# Altium footprint library Connector_PinHeader_1.27mm.PcbLib: 278 footprints (part 7 of 18)
Each footprint in its own frame and in the unit in brackets; x right, y up, seen from the top. Pads: shape width x height; smd on the part's side, far side on the other; paste and mask are expansions set on the pad; w line width, h text height; cw(c..) or ccw(c..) is an arc to the next point about the centre after c.
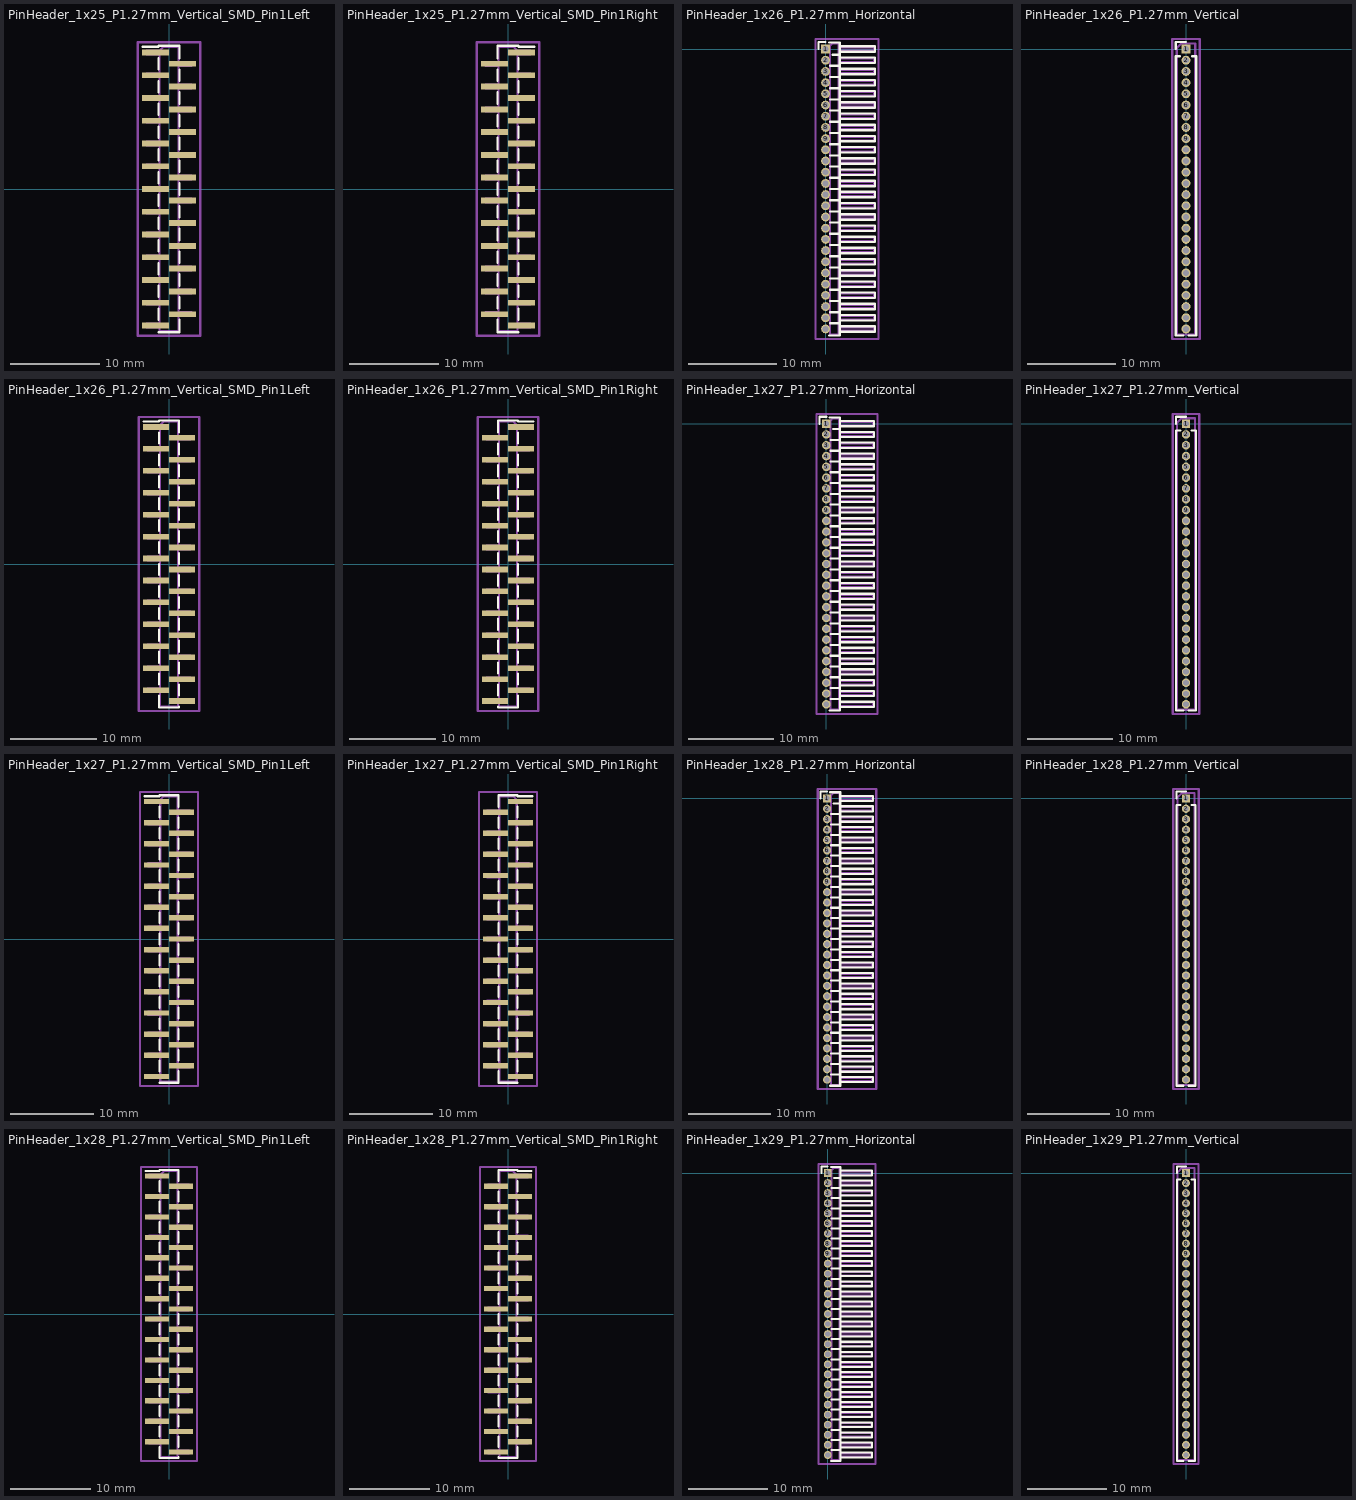
[diagram p6: the footprints below, top view; thin cyan lines are the x and y axes]

## PinHeader_1x25_P1.27mm_Vertical_SMD_Pin1Left [mm]
pads (25):
  rect 3x0.65 smd: 1(-1.5,15.24) 2(1.5,13.97) 3(-1.5,12.7) 4(1.5,11.43) 5(-1.5,10.16) 6(1.5,8.89) 7(-1.5,7.62) 8(1.5,6.35) 9(-1.5,5.08) 10(1.5,3.81) 11(-1.5,2.54) 12(1.5,1.27) 13(-1.5,0) 14(1.5,-1.27) 15(-1.5,-2.54) 16(1.5,-3.81) 17(-1.5,-5.08) 18(1.5,-6.35) 19(-1.5,-7.62) 20(1.5,-8.89) 21(-1.5,-10.16) 22(1.5,-11.43) 23(-1.5,-12.7) 24(1.5,-13.97) 25(-1.5,-15.24)
F.SilkS:
  lines w0.254: -2.94,15.875 -1.16,15.875 -1.16,15.985 1.16,15.985 ; -1.16,-15.985 1.16,-15.985 ; -1.16,-14.605 -1.16,-13.335 ; -1.16,-12.065 -1.16,-10.795 ; -1.16,-9.525 -1.16,-8.255 ; -1.16,-6.985 -1.16,-5.715 ; -1.16,-4.445 -1.16,-3.175 ; -1.16,-1.905 -1.16,-0.635 ; -1.16,0.635 -1.16,1.905 ; -1.16,3.175 -1.16,4.445 ; -1.16,5.715 -1.16,6.985 ; -1.16,8.255 -1.16,9.525 ; -1.16,10.795 -1.16,12.065 ; -1.16,13.335 -1.16,14.605 ; 1.16,-15.875 1.16,-15.985 ; 1.16,-14.605 1.16,-15.985 ; 1.16,-13.335 1.16,-12.065 ; 1.16,-10.795 1.16,-9.525 ; 1.16,-8.255 1.16,-6.985 ; 1.16,-5.715 1.16,-4.445 ; 1.16,-3.175 1.16,-1.905 ; 1.16,-0.635 1.16,0.635 ; 1.16,1.905 1.16,3.175 ; 1.16,4.445 1.16,5.715 ; 1.16,6.985 1.16,8.255 ; 1.16,9.525 1.16,10.795 ; 1.16,12.065 1.16,13.335 ; 1.16,14.605 1.16,15.875
Top Assembly:
  lines w0.254: -1.05,-15.44 -2.5,-15.44 -2.5,-15.04 -1.05,-15.04 ; -1.05,-12.9 -2.5,-12.9 -2.5,-12.5 -1.05,-12.5 ; -1.05,-10.36 -2.5,-10.36 -2.5,-9.96 -1.05,-9.96 ; -1.05,-7.82 -2.5,-7.82 -2.5,-7.42 -1.05,-7.42 ; -1.05,-5.28 -2.5,-5.28 -2.5,-4.88 -1.05,-4.88 ; -1.05,-2.74 -2.5,-2.74 -2.5,-2.34 -1.05,-2.34 ; -1.05,-0.2 -2.5,-0.2 -2.5,0.2 -1.05,0.2 ; -1.05,2.34 -2.5,2.34 -2.5,2.74 -1.05,2.74 ; -1.05,4.88 -2.5,4.88 -2.5,5.28 -1.05,5.28 ; -1.05,7.42 -2.5,7.42 -2.5,7.82 -1.05,7.82 ; -1.05,9.96 -2.5,9.96 -2.5,10.36 -1.05,10.36 ; -1.05,12.5 -2.5,12.5 -2.5,12.9 -1.05,12.9 ; -1.05,15.04 -2.5,15.04 -2.5,15.44 -1.05,15.44 ; 1.05,-14.17 2.5,-14.17 2.5,-13.77 1.05,-13.77 ; 1.05,-11.63 2.5,-11.63 2.5,-11.23 1.05,-11.23 ; 1.05,-9.09 2.5,-9.09 2.5,-8.69 1.05,-8.69 ; 1.05,-6.55 2.5,-6.55 2.5,-6.15 1.05,-6.15 ; 1.05,-4.01 2.5,-4.01 2.5,-3.61 1.05,-3.61 ; 1.05,-1.47 2.5,-1.47 2.5,-1.07 1.05,-1.07 ; 1.05,1.07 2.5,1.07 2.5,1.47 1.05,1.47 ; 1.05,3.61 2.5,3.61 2.5,4.01 1.05,4.01 ; 1.05,6.15 2.5,6.15 2.5,6.55 1.05,6.55 ; 1.05,8.69 2.5,8.69 2.5,9.09 1.05,9.09 ; 1.05,11.23 2.5,11.23 2.5,11.63 1.05,11.63 ; 1.05,13.77 2.5,13.77 2.5,14.17 1.05,14.17 ; -1.05,15.44 -1.05,-15.875 1.05,-15.875 1.05,15.875 -0.615,15.875 -1.05,15.44
  text "'.Designator'" at 0.84,-4.047 h1
Top Courtyard:
  lines w0.254: -3.5,-16.38 3.5,-16.38 3.5,16.38 -3.5,16.38 -3.5,-16.38
Top Designator:
  text ".Designator" at -7.618,-0.508 h1.52

## PinHeader_1x25_P1.27mm_Vertical_SMD_Pin1Right [mm]
pads (25):
  rect 3x0.65 smd: 1(1.5,15.24) 2(-1.5,13.97) 3(1.5,12.7) 4(-1.5,11.43) 5(1.5,10.16) 6(-1.5,8.89) 7(1.5,7.62) 8(-1.5,6.35) 9(1.5,5.08) 10(-1.5,3.81) 11(1.5,2.54) 12(-1.5,1.27) 13(1.5,0) 14(-1.5,-1.27) 15(1.5,-2.54) 16(-1.5,-3.81) 17(1.5,-5.08) 18(-1.5,-6.35) 19(1.5,-7.62) 20(-1.5,-8.89) 21(1.5,-10.16) 22(-1.5,-11.43) 23(1.5,-12.7) 24(-1.5,-13.97) 25(1.5,-15.24)
F.SilkS:
  lines w0.254: -1.16,-15.875 -1.16,-15.985 ; -1.16,-14.605 -1.16,-15.985 ; -1.16,-13.335 -1.16,-12.065 ; -1.16,-10.795 -1.16,-9.525 ; -1.16,-8.255 -1.16,-6.985 ; -1.16,-5.715 -1.16,-4.445 ; -1.16,-3.175 -1.16,-1.905 ; -1.16,-0.635 -1.16,0.635 ; -1.16,1.905 -1.16,3.175 ; -1.16,4.445 -1.16,5.715 ; -1.16,6.985 -1.16,8.255 ; -1.16,9.525 -1.16,10.795 ; -1.16,12.065 -1.16,13.335 ; -1.16,15.985 1.16,15.985 1.16,15.875 2.94,15.875 ; 1.16,-15.985 -1.16,-15.985 ; 1.16,-14.605 1.16,-13.335 ; 1.16,-12.065 1.16,-10.795 ; 1.16,-9.525 1.16,-8.255 ; 1.16,-6.985 1.16,-5.715 ; 1.16,-4.445 1.16,-3.175 ; 1.16,-1.905 1.16,-0.635 ; 1.16,0.635 1.16,1.905 ; 1.16,3.175 1.16,4.445 ; 1.16,5.715 1.16,6.985 ; 1.16,8.255 1.16,9.525 ; 1.16,10.795 1.16,12.065 ; 1.16,13.335 1.16,14.605 ; -1.16,14.605 -1.16,15.875 -1.16,14.605
Top Assembly:
  lines w0.254: -1.05,-14.17 -2.5,-14.17 -2.5,-13.77 -1.05,-13.77 ; -1.05,-11.63 -2.5,-11.63 -2.5,-11.23 -1.05,-11.23 ; -1.05,-9.09 -2.5,-9.09 -2.5,-8.69 -1.05,-8.69 ; -1.05,-6.55 -2.5,-6.55 -2.5,-6.15 -1.05,-6.15 ; -1.05,-4.01 -2.5,-4.01 -2.5,-3.61 -1.05,-3.61 ; -1.05,-1.47 -2.5,-1.47 -2.5,-1.07 -1.05,-1.07 ; -1.05,1.07 -2.5,1.07 -2.5,1.47 -1.05,1.47 ; -1.05,3.61 -2.5,3.61 -2.5,4.01 -1.05,4.01 ; -1.05,6.15 -2.5,6.15 -2.5,6.55 -1.05,6.55 ; -1.05,8.69 -2.5,8.69 -2.5,9.09 -1.05,9.09 ; -1.05,11.23 -2.5,11.23 -2.5,11.63 -1.05,11.63 ; -1.05,13.77 -2.5,13.77 -2.5,14.17 -1.05,14.17 ; 1.05,-15.44 2.5,-15.44 2.5,-15.04 1.05,-15.04 ; 1.05,-12.9 2.5,-12.9 2.5,-12.5 1.05,-12.5 ; 1.05,-10.36 2.5,-10.36 2.5,-9.96 1.05,-9.96 ; 1.05,-7.82 2.5,-7.82 2.5,-7.42 1.05,-7.42 ; 1.05,-5.28 2.5,-5.28 2.5,-4.88 1.05,-4.88 ; 1.05,-2.74 2.5,-2.74 2.5,-2.34 1.05,-2.34 ; 1.05,-0.2 2.5,-0.2 2.5,0.2 1.05,0.2 ; 1.05,2.34 2.5,2.34 2.5,2.74 1.05,2.74 ; 1.05,4.88 2.5,4.88 2.5,5.28 1.05,5.28 ; 1.05,7.42 2.5,7.42 2.5,7.82 1.05,7.82 ; 1.05,9.96 2.5,9.96 2.5,10.36 1.05,10.36 ; 1.05,12.5 2.5,12.5 2.5,12.9 1.05,12.9 ; 1.05,15.04 2.5,15.04 2.5,15.44 1.05,15.44 ; 1.05,15.44 1.05,-15.875 -1.05,-15.875 -1.05,15.875 0.615,15.875 1.05,15.44
  text "'.Designator'" at 0.84,-4.047 h1
Top Courtyard:
  lines w0.254: -3.5,-16.38 3.5,-16.38 3.5,16.38 -3.5,16.38 -3.5,-16.38
Top Designator:
  text ".Designator" at -7.618,-0.508 h1.52

## PinHeader_1x26_P1.27mm_Horizontal [mm]
pads (26):
  rect 1x1 hole 0.65: 1(0,0)
  round 1 hole 0.65: 2(0,-1.27) 3(0,-2.54) 4(0,-3.81) 5(0,-5.08) 6(0,-6.35) 7(0,-7.62) 8(0,-8.89) 9(0,-10.16) 10(0,-11.43) 11(0,-12.7) 12(0,-13.97) 13(0,-15.24) 14(0,-16.51) 15(0,-17.78) 16(0,-19.05) 17(0,-20.32) 18(0,-21.59) 19(0,-22.86) 20(0,-24.13) 21(0,-25.4) 22(0,-26.67) 23(0,-27.94) 24(0,-29.21) 25(0,-30.48) 26(0,-31.75)
F.SilkS:
  lines w0.254: -0.81,0 -0.81,0.81 0,0.81 ; 0.39,-32.495 1.61,-32.495 1.61,0.745 0.39,0.745 ; 0.503,-31.115 1.61,-31.115 ; 0.503,-29.845 1.61,-29.845 ; 0.503,-28.575 1.61,-28.575 ; 0.503,-27.305 1.61,-27.305 ; 0.503,-26.035 1.61,-26.035 ; 0.503,-24.765 1.61,-24.765 ; 0.503,-23.495 1.61,-23.495 ; 0.503,-22.225 1.61,-22.225 ; 0.503,-20.955 1.61,-20.955 ; 0.503,-19.685 1.61,-19.685 ; 0.503,-18.415 1.61,-18.415 ; 0.503,-17.145 1.61,-17.145 ; 0.503,-15.875 1.61,-15.875 ; 0.503,-14.605 1.61,-14.605 ; 0.503,-13.335 1.61,-13.335 ; 0.503,-12.065 1.61,-12.065 ; 0.503,-10.795 1.61,-10.795 ; 0.503,-9.525 1.61,-9.525 ; 0.503,-8.255 1.61,-8.255 ; 0.503,-6.985 1.61,-6.985 ; 0.503,-5.715 1.61,-5.715 ; 0.503,-4.445 1.61,-4.445 ; 0.503,-3.175 1.61,-3.175 ; 0.503,-1.905 1.61,-1.905 ; 0.81,-0.635 1.61,-0.635 ; 1.61,-32.06 5.61,-32.06 5.61,-31.44 1.61,-31.44 ; 1.61,-30.79 5.61,-30.79 5.61,-30.17 1.61,-30.17 ; 1.61,-29.52 5.61,-29.52 5.61,-28.9 1.61,-28.9 ; 1.61,-28.25 5.61,-28.25 5.61,-27.63 1.61,-27.63 ; 1.61,-26.98 5.61,-26.98 5.61,-26.36 1.61,-26.36 ; 1.61,-25.71 5.61,-25.71 5.61,-25.09 1.61,-25.09 ; 1.61,-24.44 5.61,-24.44 5.61,-23.82 1.61,-23.82 ; 1.61,-23.17 5.61,-23.17 5.61,-22.55 1.61,-22.55 ; 1.61,-21.9 5.61,-21.9 5.61,-21.28 1.61,-21.28 ; 1.61,-20.63 5.61,-20.63 5.61,-20.01 1.61,-20.01 ; 1.61,-19.36 5.61,-19.36 5.61,-18.74 1.61,-18.74 ; 1.61,-18.09 5.61,-18.09 5.61,-17.47 1.61,-17.47 ; 1.61,-16.82 5.61,-16.82 5.61,-16.2 1.61,-16.2 ; 1.61,-15.55 5.61,-15.55 5.61,-14.93 1.61,-14.93 ; 1.61,-14.28 5.61,-14.28 5.61,-13.66 1.61,-13.66 ; 1.61,-13.01 5.61,-13.01 5.61,-12.39 1.61,-12.39 ; 1.61,-11.74 5.61,-11.74 5.61,-11.12 1.61,-11.12 ; 1.61,-10.47 5.61,-10.47 5.61,-9.85 1.61,-9.85 ; 1.61,-9.2 5.61,-9.2 5.61,-8.58 1.61,-8.58 ; 1.61,-7.93 5.61,-7.93 5.61,-7.31 1.61,-7.31 ; 1.61,-6.66 5.61,-6.66 5.61,-6.04 1.61,-6.04 ; 1.61,-5.39 5.61,-5.39 5.61,-4.77 1.61,-4.77 ; 1.61,-4.12 5.61,-4.12 5.61,-3.5 1.61,-3.5 ; 1.61,-2.85 5.61,-2.85 5.61,-2.23 1.61,-2.23 ; 1.61,-1.58 5.61,-1.58 5.61,-0.96 1.61,-0.96 ; 1.61,-0.31 5.61,-0.31 5.61,0.31 1.61,0.31 1.61,-0.31
Top Assembly:
  drawing of 161 lines, arcs and shapes, not listed
  text "'.Designator'" at 1.504,-18.303 h0.6
Top Courtyard:
  lines w0.254: -1.14,-32.89 6,-32.89 6,1.14 -1.14,1.14 -1.14,-32.89
Top Designator:
  text ".Designator" at -5.188,-16.383 h1.52

## PinHeader_1x26_P1.27mm_Vertical [mm]
pads (26):
  rect 1x1 hole 0.65: 1(0,0)
  round 1 hole 0.65: 2(0,-1.27) 3(0,-2.54) 4(0,-3.81) 5(0,-5.08) 6(0,-6.35) 7(0,-7.62) 8(0,-8.89) 9(0,-10.16) 10(0,-11.43) 11(0,-12.7) 12(0,-13.97) 13(0,-15.24) 14(0,-16.51) 15(0,-17.78) 16(0,-19.05) 17(0,-20.32) 18(0,-21.59) 19(0,-22.86) 20(0,-24.13) 21(0,-25.4) 22(0,-26.67) 23(0,-27.94) 24(0,-29.21) 25(0,-30.48) 26(0,-31.75)
F.SilkS:
  lines w0.254: -1.16,0 -1.16,0.81 0,0.81 ; -0.667,-0.81 -1.16,-0.81 -1.16,-32.495 -0.318,-32.495 ; 0.318,-32.495 1.16,-32.495 1.16,-0.81 0.667,-0.81
Top Assembly:
  lines w0.254: -1.05,-32.385 1.05,-32.385 1.05,0.635 -0.525,0.635 -1.05,0.11 -1.05,-32.385
  text "'.Designator'" at 0.84,-19.922 h1
Top Courtyard:
  lines w0.254: -1.55,-32.89 1.55,-32.89 1.55,1.14 -1.55,1.14 -1.55,-32.89
Top Designator:
  text ".Designator" at -7.618,-16.383 h1.52

## PinHeader_1x26_P1.27mm_Vertical_SMD_Pin1Left [mm]
pads (26):
  rect 3x0.65 smd: 1(-1.5,15.875) 2(1.5,14.605) 3(-1.5,13.335) 4(1.5,12.065) 5(-1.5,10.795) 6(1.5,9.525) 7(-1.5,8.255) 8(1.5,6.985) 9(-1.5,5.715) 10(1.5,4.445) 11(-1.5,3.175) 12(1.5,1.905) 13(-1.5,0.635) 14(1.5,-0.635) 15(-1.5,-1.905) 16(1.5,-3.175) 17(-1.5,-4.445) 18(1.5,-5.715) 19(-1.5,-6.985) 20(1.5,-8.255) 21(-1.5,-9.525) 22(1.5,-10.795) 23(-1.5,-12.065) 24(1.5,-13.335) 25(-1.5,-14.605) 26(1.5,-15.875)
F.SilkS:
  lines w0.254: -2.94,16.51 -1.16,16.51 -1.16,16.62 1.16,16.62 ; -1.16,-15.24 -1.16,-16.62 1.16,-16.62 1.16,-16.51 ; -1.16,-13.97 -1.16,-12.7 ; -1.16,-11.43 -1.16,-10.16 ; -1.16,-8.89 -1.16,-7.62 ; -1.16,-6.35 -1.16,-5.08 ; -1.16,-3.81 -1.16,-2.54 ; -1.16,-1.27 -1.16,0 ; -1.16,1.27 -1.16,2.54 ; -1.16,3.81 -1.16,5.08 ; -1.16,6.35 -1.16,7.62 ; -1.16,8.89 -1.16,10.16 ; -1.16,11.43 -1.16,12.7 ; -1.16,13.97 -1.16,15.24 ; 1.16,-15.24 1.16,-13.97 ; 1.16,-12.7 1.16,-11.43 ; 1.16,-10.16 1.16,-8.89 ; 1.16,-7.62 1.16,-6.35 ; 1.16,-5.08 1.16,-3.81 ; 1.16,-2.54 1.16,-1.27 ; 1.16,0 1.16,1.27 ; 1.16,2.54 1.16,3.81 ; 1.16,5.08 1.16,6.35 ; 1.16,7.62 1.16,8.89 ; 1.16,10.16 1.16,11.43 ; 1.16,12.7 1.16,13.97 ; 1.16,15.24 1.16,16.51
Top Assembly:
  lines w0.254: -1.05,-14.805 -2.5,-14.805 -2.5,-14.405 -1.05,-14.405 ; -1.05,-12.265 -2.5,-12.265 -2.5,-11.865 -1.05,-11.865 ; -1.05,-9.725 -2.5,-9.725 -2.5,-9.325 -1.05,-9.325 ; -1.05,-7.185 -2.5,-7.185 -2.5,-6.785 -1.05,-6.785 ; -1.05,-4.645 -2.5,-4.645 -2.5,-4.245 -1.05,-4.245 ; -1.05,-2.105 -2.5,-2.105 -2.5,-1.705 -1.05,-1.705 ; -1.05,0.435 -2.5,0.435 -2.5,0.835 -1.05,0.835 ; -1.05,2.975 -2.5,2.975 -2.5,3.375 -1.05,3.375 ; -1.05,5.515 -2.5,5.515 -2.5,5.915 -1.05,5.915 ; -1.05,8.055 -2.5,8.055 -2.5,8.455 -1.05,8.455 ; -1.05,10.595 -2.5,10.595 -2.5,10.995 -1.05,10.995 ; -1.05,13.135 -2.5,13.135 -2.5,13.535 -1.05,13.535 ; -1.05,15.675 -2.5,15.675 -2.5,16.075 -1.05,16.075 ; 1.05,-16.075 2.5,-16.075 2.5,-15.675 1.05,-15.675 ; 1.05,-13.535 2.5,-13.535 2.5,-13.135 1.05,-13.135 ; 1.05,-10.995 2.5,-10.995 2.5,-10.595 1.05,-10.595 ; 1.05,-8.455 2.5,-8.455 2.5,-8.055 1.05,-8.055 ; 1.05,-5.915 2.5,-5.915 2.5,-5.515 1.05,-5.515 ; 1.05,-3.375 2.5,-3.375 2.5,-2.975 1.05,-2.975 ; 1.05,-0.835 2.5,-0.835 2.5,-0.435 1.05,-0.435 ; 1.05,1.705 2.5,1.705 2.5,2.105 1.05,2.105 ; 1.05,4.245 2.5,4.245 2.5,4.645 1.05,4.645 ; 1.05,6.785 2.5,6.785 2.5,7.185 1.05,7.185 ; 1.05,9.325 2.5,9.325 2.5,9.725 1.05,9.725 ; 1.05,11.865 2.5,11.865 2.5,12.265 1.05,12.265 ; 1.05,14.405 2.5,14.405 2.5,14.805 1.05,14.805 ; -1.05,16.075 -1.05,-16.51 1.05,-16.51 1.05,16.51 -0.615,16.51 -1.05,16.075
  text "'.Designator'" at 0.84,-4.047 h1
Top Courtyard:
  lines w0.254: -3.5,-17.01 3.5,-17.01 3.5,17.01 -3.5,17.01 -3.5,-17.01
Top Designator:
  text ".Designator" at -7.618,-0.508 h1.52

## PinHeader_1x26_P1.27mm_Vertical_SMD_Pin1Right [mm]
pads (26):
  rect 3x0.65 smd: 1(1.5,15.875) 2(-1.5,14.605) 3(1.5,13.335) 4(-1.5,12.065) 5(1.5,10.795) 6(-1.5,9.525) 7(1.5,8.255) 8(-1.5,6.985) 9(1.5,5.715) 10(-1.5,4.445) 11(1.5,3.175) 12(-1.5,1.905) 13(1.5,0.635) 14(-1.5,-0.635) 15(1.5,-1.905) 16(-1.5,-3.175) 17(1.5,-4.445) 18(-1.5,-5.715) 19(1.5,-6.985) 20(-1.5,-8.255) 21(1.5,-9.525) 22(-1.5,-10.795) 23(1.5,-12.065) 24(-1.5,-13.335) 25(1.5,-14.605) 26(-1.5,-15.875)
F.SilkS:
  lines w0.254: -1.16,-16.51 -1.16,-16.62 1.16,-16.62 1.16,-15.24 ; -1.16,-15.24 -1.16,-13.97 ; -1.16,-12.7 -1.16,-11.43 ; -1.16,-10.16 -1.16,-8.89 ; -1.16,-7.62 -1.16,-6.35 ; -1.16,-5.08 -1.16,-3.81 ; -1.16,-2.54 -1.16,-1.27 ; -1.16,0 -1.16,1.27 ; -1.16,2.54 -1.16,3.81 ; -1.16,5.08 -1.16,6.35 ; -1.16,7.62 -1.16,8.89 ; -1.16,10.16 -1.16,11.43 ; -1.16,12.7 -1.16,13.97 ; -1.16,16.62 1.16,16.62 1.16,16.51 2.94,16.51 ; 1.16,-13.97 1.16,-12.7 ; 1.16,-11.43 1.16,-10.16 ; 1.16,-8.89 1.16,-7.62 ; 1.16,-6.35 1.16,-5.08 ; 1.16,-3.81 1.16,-2.54 ; 1.16,-1.27 1.16,0 ; 1.16,1.27 1.16,2.54 ; 1.16,3.81 1.16,5.08 ; 1.16,6.35 1.16,7.62 ; 1.16,8.89 1.16,10.16 ; 1.16,11.43 1.16,12.7 ; 1.16,13.97 1.16,15.24 ; -1.16,15.24 -1.16,16.51 -1.16,15.24
Top Assembly:
  lines w0.254: -1.05,-16.075 -2.5,-16.075 -2.5,-15.675 -1.05,-15.675 ; -1.05,-13.535 -2.5,-13.535 -2.5,-13.135 -1.05,-13.135 ; -1.05,-10.995 -2.5,-10.995 -2.5,-10.595 -1.05,-10.595 ; -1.05,-8.455 -2.5,-8.455 -2.5,-8.055 -1.05,-8.055 ; -1.05,-5.915 -2.5,-5.915 -2.5,-5.515 -1.05,-5.515 ; -1.05,-3.375 -2.5,-3.375 -2.5,-2.975 -1.05,-2.975 ; -1.05,-0.835 -2.5,-0.835 -2.5,-0.435 -1.05,-0.435 ; -1.05,1.705 -2.5,1.705 -2.5,2.105 -1.05,2.105 ; -1.05,4.245 -2.5,4.245 -2.5,4.645 -1.05,4.645 ; -1.05,6.785 -2.5,6.785 -2.5,7.185 -1.05,7.185 ; -1.05,9.325 -2.5,9.325 -2.5,9.725 -1.05,9.725 ; -1.05,11.865 -2.5,11.865 -2.5,12.265 -1.05,12.265 ; -1.05,14.405 -2.5,14.405 -2.5,14.805 -1.05,14.805 ; 1.05,-14.805 2.5,-14.805 2.5,-14.405 1.05,-14.405 ; 1.05,-12.265 2.5,-12.265 2.5,-11.865 1.05,-11.865 ; 1.05,-9.725 2.5,-9.725 2.5,-9.325 1.05,-9.325 ; 1.05,-7.185 2.5,-7.185 2.5,-6.785 1.05,-6.785 ; 1.05,-4.645 2.5,-4.645 2.5,-4.245 1.05,-4.245 ; 1.05,-2.105 2.5,-2.105 2.5,-1.705 1.05,-1.705 ; 1.05,0.435 2.5,0.435 2.5,0.835 1.05,0.835 ; 1.05,2.975 2.5,2.975 2.5,3.375 1.05,3.375 ; 1.05,5.515 2.5,5.515 2.5,5.915 1.05,5.915 ; 1.05,8.055 2.5,8.055 2.5,8.455 1.05,8.455 ; 1.05,10.595 2.5,10.595 2.5,10.995 1.05,10.995 ; 1.05,13.135 2.5,13.135 2.5,13.535 1.05,13.535 ; 1.05,15.675 2.5,15.675 2.5,16.075 1.05,16.075 ; 1.05,16.075 1.05,-16.51 -1.05,-16.51 -1.05,16.51 0.615,16.51 1.05,16.075
  text "'.Designator'" at 0.84,-4.047 h1
Top Courtyard:
  lines w0.254: -3.5,-17.01 3.5,-17.01 3.5,17.01 -3.5,17.01 -3.5,-17.01
Top Designator:
  text ".Designator" at -7.618,-0.508 h1.52

## PinHeader_1x27_P1.27mm_Horizontal [mm]
pads (27):
  rect 1x1 hole 0.65: 1(0,0)
  round 1 hole 0.65: 2(0,-1.27) 3(0,-2.54) 4(0,-3.81) 5(0,-5.08) 6(0,-6.35) 7(0,-7.62) 8(0,-8.89) 9(0,-10.16) 10(0,-11.43) 11(0,-12.7) 12(0,-13.97) 13(0,-15.24) 14(0,-16.51) 15(0,-17.78) 16(0,-19.05) 17(0,-20.32) 18(0,-21.59) 19(0,-22.86) 20(0,-24.13) 21(0,-25.4) 22(0,-26.67) 23(0,-27.94) 24(0,-29.21) 25(0,-30.48) 26(0,-31.75) 27(0,-33.02)
F.SilkS:
  lines w0.254: -0.81,0 -0.81,0.81 0,0.81 ; 0.39,-33.765 1.61,-33.765 1.61,0.745 0.39,0.745 ; 0.503,-32.385 1.61,-32.385 ; 0.503,-31.115 1.61,-31.115 ; 0.503,-29.845 1.61,-29.845 ; 0.503,-28.575 1.61,-28.575 ; 0.503,-27.305 1.61,-27.305 ; 0.503,-26.035 1.61,-26.035 ; 0.503,-24.765 1.61,-24.765 ; 0.503,-23.495 1.61,-23.495 ; 0.503,-22.225 1.61,-22.225 ; 0.503,-20.955 1.61,-20.955 ; 0.503,-19.685 1.61,-19.685 ; 0.503,-18.415 1.61,-18.415 ; 0.503,-17.145 1.61,-17.145 ; 0.503,-15.875 1.61,-15.875 ; 0.503,-14.605 1.61,-14.605 ; 0.503,-13.335 1.61,-13.335 ; 0.503,-12.065 1.61,-12.065 ; 0.503,-10.795 1.61,-10.795 ; 0.503,-9.525 1.61,-9.525 ; 0.503,-8.255 1.61,-8.255 ; 0.503,-6.985 1.61,-6.985 ; 0.503,-5.715 1.61,-5.715 ; 0.503,-4.445 1.61,-4.445 ; 0.503,-3.175 1.61,-3.175 ; 0.503,-1.905 1.61,-1.905 ; 0.81,-0.635 1.61,-0.635 ; 1.61,-33.33 5.61,-33.33 5.61,-32.71 1.61,-32.71 ; 1.61,-32.06 5.61,-32.06 5.61,-31.44 1.61,-31.44 ; 1.61,-30.79 5.61,-30.79 5.61,-30.17 1.61,-30.17 ; 1.61,-29.52 5.61,-29.52 5.61,-28.9 1.61,-28.9 ; 1.61,-28.25 5.61,-28.25 5.61,-27.63 1.61,-27.63 ; 1.61,-26.98 5.61,-26.98 5.61,-26.36 1.61,-26.36 ; 1.61,-25.71 5.61,-25.71 5.61,-25.09 1.61,-25.09 ; 1.61,-24.44 5.61,-24.44 5.61,-23.82 1.61,-23.82 ; 1.61,-23.17 5.61,-23.17 5.61,-22.55 1.61,-22.55 ; 1.61,-21.9 5.61,-21.9 5.61,-21.28 1.61,-21.28 ; 1.61,-20.63 5.61,-20.63 5.61,-20.01 1.61,-20.01 ; 1.61,-19.36 5.61,-19.36 5.61,-18.74 1.61,-18.74 ; 1.61,-18.09 5.61,-18.09 5.61,-17.47 1.61,-17.47 ; 1.61,-16.82 5.61,-16.82 5.61,-16.2 1.61,-16.2 ; 1.61,-15.55 5.61,-15.55 5.61,-14.93 1.61,-14.93 ; 1.61,-14.28 5.61,-14.28 5.61,-13.66 1.61,-13.66 ; 1.61,-13.01 5.61,-13.01 5.61,-12.39 1.61,-12.39 ; 1.61,-11.74 5.61,-11.74 5.61,-11.12 1.61,-11.12 ; 1.61,-10.47 5.61,-10.47 5.61,-9.85 1.61,-9.85 ; 1.61,-9.2 5.61,-9.2 5.61,-8.58 1.61,-8.58 ; 1.61,-7.93 5.61,-7.93 5.61,-7.31 1.61,-7.31 ; 1.61,-6.66 5.61,-6.66 5.61,-6.04 1.61,-6.04 ; 1.61,-5.39 5.61,-5.39 5.61,-4.77 1.61,-4.77 ; 1.61,-4.12 5.61,-4.12 5.61,-3.5 1.61,-3.5 ; 1.61,-2.85 5.61,-2.85 5.61,-2.23 1.61,-2.23 ; 1.61,-1.58 5.61,-1.58 5.61,-0.96 1.61,-0.96 ; 1.61,-0.31 5.61,-0.31 5.61,0.31 1.61,0.31 1.61,-0.31
Top Assembly:
  drawing of 167 lines, arcs and shapes, not listed
  text "'.Designator'" at 1.504,-18.938 h0.6
Top Courtyard:
  lines w0.254: -1.14,-34.16 6,-34.16 6,1.14 -1.14,1.14 -1.14,-34.16
Top Designator:
  text ".Designator" at -5.188,-17.018 h1.52

## PinHeader_1x27_P1.27mm_Vertical [mm]
pads (27):
  rect 1x1 hole 0.65: 1(0,0)
  round 1 hole 0.65: 2(0,-1.27) 3(0,-2.54) 4(0,-3.81) 5(0,-5.08) 6(0,-6.35) 7(0,-7.62) 8(0,-8.89) 9(0,-10.16) 10(0,-11.43) 11(0,-12.7) 12(0,-13.97) 13(0,-15.24) 14(0,-16.51) 15(0,-17.78) 16(0,-19.05) 17(0,-20.32) 18(0,-21.59) 19(0,-22.86) 20(0,-24.13) 21(0,-25.4) 22(0,-26.67) 23(0,-27.94) 24(0,-29.21) 25(0,-30.48) 26(0,-31.75) 27(0,-33.02)
F.SilkS:
  lines w0.254: -1.16,0 -1.16,0.81 0,0.81 ; -0.667,-0.81 -1.16,-0.81 -1.16,-33.765 -0.318,-33.765 ; 0.318,-33.765 1.16,-33.765 1.16,-0.81 0.667,-0.81
Top Assembly:
  lines w0.254: -1.05,-33.655 1.05,-33.655 1.05,0.635 -0.525,0.635 -1.05,0.11 -1.05,-33.655
  text "'.Designator'" at 0.84,-20.557 h1
Top Courtyard:
  lines w0.254: -1.55,-34.16 1.55,-34.16 1.55,1.14 -1.55,1.14 -1.55,-34.16
Top Designator:
  text ".Designator" at -7.618,-17.018 h1.52

## PinHeader_1x27_P1.27mm_Vertical_SMD_Pin1Left [mm]
pads (27):
  rect 3x0.65 smd: 1(-1.5,16.51) 2(1.5,15.24) 3(-1.5,13.97) 4(1.5,12.7) 5(-1.5,11.43) 6(1.5,10.16) 7(-1.5,8.89) 8(1.5,7.62) 9(-1.5,6.35) 10(1.5,5.08) 11(-1.5,3.81) 12(1.5,2.54) 13(-1.5,1.27) 14(1.5,0) 15(-1.5,-1.27) 16(1.5,-2.54) 17(-1.5,-3.81) 18(1.5,-5.08) 19(-1.5,-6.35) 20(1.5,-7.62) 21(-1.5,-8.89) 22(1.5,-10.16) 23(-1.5,-11.43) 24(1.5,-12.7) 25(-1.5,-13.97) 26(1.5,-15.24) 27(-1.5,-16.51)
F.SilkS:
  lines w0.254: -2.94,17.145 -1.16,17.145 -1.16,17.255 1.16,17.255 ; -1.16,-17.255 1.16,-17.255 ; -1.16,-15.875 -1.16,-14.605 ; -1.16,-13.335 -1.16,-12.065 ; -1.16,-10.795 -1.16,-9.525 ; -1.16,-8.255 -1.16,-6.985 ; -1.16,-5.715 -1.16,-4.445 ; -1.16,-3.175 -1.16,-1.905 ; -1.16,-0.635 -1.16,0.635 ; -1.16,1.905 -1.16,3.175 ; -1.16,4.445 -1.16,5.715 ; -1.16,6.985 -1.16,8.255 ; -1.16,9.525 -1.16,10.795 ; -1.16,12.065 -1.16,13.335 ; -1.16,14.605 -1.16,15.875 ; 1.16,-17.145 1.16,-17.255 ; 1.16,-15.875 1.16,-17.255 ; 1.16,-14.605 1.16,-13.335 ; 1.16,-12.065 1.16,-10.795 ; 1.16,-9.525 1.16,-8.255 ; 1.16,-6.985 1.16,-5.715 ; 1.16,-4.445 1.16,-3.175 ; 1.16,-1.905 1.16,-0.635 ; 1.16,0.635 1.16,1.905 ; 1.16,3.175 1.16,4.445 ; 1.16,5.715 1.16,6.985 ; 1.16,8.255 1.16,9.525 ; 1.16,10.795 1.16,12.065 ; 1.16,13.335 1.16,14.605 ; 1.16,15.875 1.16,17.145
Top Assembly:
  lines w0.254: -1.05,-16.71 -2.5,-16.71 -2.5,-16.31 -1.05,-16.31 ; -1.05,-14.17 -2.5,-14.17 -2.5,-13.77 -1.05,-13.77 ; -1.05,-11.63 -2.5,-11.63 -2.5,-11.23 -1.05,-11.23 ; -1.05,-9.09 -2.5,-9.09 -2.5,-8.69 -1.05,-8.69 ; -1.05,-6.55 -2.5,-6.55 -2.5,-6.15 -1.05,-6.15 ; -1.05,-4.01 -2.5,-4.01 -2.5,-3.61 -1.05,-3.61 ; -1.05,-1.47 -2.5,-1.47 -2.5,-1.07 -1.05,-1.07 ; -1.05,1.07 -2.5,1.07 -2.5,1.47 -1.05,1.47 ; -1.05,3.61 -2.5,3.61 -2.5,4.01 -1.05,4.01 ; -1.05,6.15 -2.5,6.15 -2.5,6.55 -1.05,6.55 ; -1.05,8.69 -2.5,8.69 -2.5,9.09 -1.05,9.09 ; -1.05,11.23 -2.5,11.23 -2.5,11.63 -1.05,11.63 ; -1.05,13.77 -2.5,13.77 -2.5,14.17 -1.05,14.17 ; -1.05,16.31 -2.5,16.31 -2.5,16.71 -1.05,16.71 ; 1.05,-15.44 2.5,-15.44 2.5,-15.04 1.05,-15.04 ; 1.05,-12.9 2.5,-12.9 2.5,-12.5 1.05,-12.5 ; 1.05,-10.36 2.5,-10.36 2.5,-9.96 1.05,-9.96 ; 1.05,-7.82 2.5,-7.82 2.5,-7.42 1.05,-7.42 ; 1.05,-5.28 2.5,-5.28 2.5,-4.88 1.05,-4.88 ; 1.05,-2.74 2.5,-2.74 2.5,-2.34 1.05,-2.34 ; 1.05,-0.2 2.5,-0.2 2.5,0.2 1.05,0.2 ; 1.05,2.34 2.5,2.34 2.5,2.74 1.05,2.74 ; 1.05,4.88 2.5,4.88 2.5,5.28 1.05,5.28 ; 1.05,7.42 2.5,7.42 2.5,7.82 1.05,7.82 ; 1.05,9.96 2.5,9.96 2.5,10.36 1.05,10.36 ; 1.05,12.5 2.5,12.5 2.5,12.9 1.05,12.9 ; 1.05,15.04 2.5,15.04 2.5,15.44 1.05,15.44 ; -1.05,16.71 -1.05,-17.145 1.05,-17.145 1.05,17.145 -0.615,17.145 -1.05,16.71
  text "'.Designator'" at 0.84,-4.047 h1
Top Courtyard:
  lines w0.254: -3.5,-17.65 3.5,-17.65 3.5,17.65 -3.5,17.65 -3.5,-17.65
Top Designator:
  text ".Designator" at -7.618,-0.508 h1.52

## PinHeader_1x27_P1.27mm_Vertical_SMD_Pin1Right [mm]
pads (27):
  rect 3x0.65 smd: 1(1.5,16.51) 2(-1.5,15.24) 3(1.5,13.97) 4(-1.5,12.7) 5(1.5,11.43) 6(-1.5,10.16) 7(1.5,8.89) 8(-1.5,7.62) 9(1.5,6.35) 10(-1.5,5.08) 11(1.5,3.81) 12(-1.5,2.54) 13(1.5,1.27) 14(-1.5,0) 15(1.5,-1.27) 16(-1.5,-2.54) 17(1.5,-3.81) 18(-1.5,-5.08) 19(1.5,-6.35) 20(-1.5,-7.62) 21(1.5,-8.89) 22(-1.5,-10.16) 23(1.5,-11.43) 24(-1.5,-12.7) 25(1.5,-13.97) 26(-1.5,-15.24) 27(1.5,-16.51)
F.SilkS:
  lines w0.254: -1.16,-17.145 -1.16,-17.255 ; -1.16,-15.875 -1.16,-17.255 ; -1.16,-14.605 -1.16,-13.335 ; -1.16,-12.065 -1.16,-10.795 ; -1.16,-9.525 -1.16,-8.255 ; -1.16,-6.985 -1.16,-5.715 ; -1.16,-4.445 -1.16,-3.175 ; -1.16,-1.905 -1.16,-0.635 ; -1.16,0.635 -1.16,1.905 ; -1.16,3.175 -1.16,4.445 ; -1.16,5.715 -1.16,6.985 ; -1.16,8.255 -1.16,9.525 ; -1.16,10.795 -1.16,12.065 ; -1.16,13.335 -1.16,14.605 ; -1.16,17.255 1.16,17.255 1.16,17.145 2.94,17.145 ; 1.16,-17.255 -1.16,-17.255 ; 1.16,-15.875 1.16,-14.605 ; 1.16,-13.335 1.16,-12.065 ; 1.16,-10.795 1.16,-9.525 ; 1.16,-8.255 1.16,-6.985 ; 1.16,-5.715 1.16,-4.445 ; 1.16,-3.175 1.16,-1.905 ; 1.16,-0.635 1.16,0.635 ; 1.16,1.905 1.16,3.175 ; 1.16,4.445 1.16,5.715 ; 1.16,6.985 1.16,8.255 ; 1.16,9.525 1.16,10.795 ; 1.16,12.065 1.16,13.335 ; 1.16,14.605 1.16,15.875 ; -1.16,15.875 -1.16,17.145 -1.16,15.875
Top Assembly:
  lines w0.254: -1.05,-15.44 -2.5,-15.44 -2.5,-15.04 -1.05,-15.04 ; -1.05,-12.9 -2.5,-12.9 -2.5,-12.5 -1.05,-12.5 ; -1.05,-10.36 -2.5,-10.36 -2.5,-9.96 -1.05,-9.96 ; -1.05,-7.82 -2.5,-7.82 -2.5,-7.42 -1.05,-7.42 ; -1.05,-5.28 -2.5,-5.28 -2.5,-4.88 -1.05,-4.88 ; -1.05,-2.74 -2.5,-2.74 -2.5,-2.34 -1.05,-2.34 ; -1.05,-0.2 -2.5,-0.2 -2.5,0.2 -1.05,0.2 ; -1.05,2.34 -2.5,2.34 -2.5,2.74 -1.05,2.74 ; -1.05,4.88 -2.5,4.88 -2.5,5.28 -1.05,5.28 ; -1.05,7.42 -2.5,7.42 -2.5,7.82 -1.05,7.82 ; -1.05,9.96 -2.5,9.96 -2.5,10.36 -1.05,10.36 ; -1.05,12.5 -2.5,12.5 -2.5,12.9 -1.05,12.9 ; -1.05,15.04 -2.5,15.04 -2.5,15.44 -1.05,15.44 ; 1.05,-16.71 2.5,-16.71 2.5,-16.31 1.05,-16.31 ; 1.05,-14.17 2.5,-14.17 2.5,-13.77 1.05,-13.77 ; 1.05,-11.63 2.5,-11.63 2.5,-11.23 1.05,-11.23 ; 1.05,-9.09 2.5,-9.09 2.5,-8.69 1.05,-8.69 ; 1.05,-6.55 2.5,-6.55 2.5,-6.15 1.05,-6.15 ; 1.05,-4.01 2.5,-4.01 2.5,-3.61 1.05,-3.61 ; 1.05,-1.47 2.5,-1.47 2.5,-1.07 1.05,-1.07 ; 1.05,1.07 2.5,1.07 2.5,1.47 1.05,1.47 ; 1.05,3.61 2.5,3.61 2.5,4.01 1.05,4.01 ; 1.05,6.15 2.5,6.15 2.5,6.55 1.05,6.55 ; 1.05,8.69 2.5,8.69 2.5,9.09 1.05,9.09 ; 1.05,11.23 2.5,11.23 2.5,11.63 1.05,11.63 ; 1.05,13.77 2.5,13.77 2.5,14.17 1.05,14.17 ; 1.05,16.31 2.5,16.31 2.5,16.71 1.05,16.71 ; 1.05,16.71 1.05,-17.145 -1.05,-17.145 -1.05,17.145 0.615,17.145 1.05,16.71
  text "'.Designator'" at 0.84,-4.047 h1
Top Courtyard:
  lines w0.254: -3.5,-17.65 3.5,-17.65 3.5,17.65 -3.5,17.65 -3.5,-17.65
Top Designator:
  text ".Designator" at -7.618,-0.508 h1.52

## PinHeader_1x28_P1.27mm_Horizontal [mm]
pads (28):
  rect 1x1 hole 0.65: 1(0,0)
  round 1 hole 0.65: 2(0,-1.27) 3(0,-2.54) 4(0,-3.81) 5(0,-5.08) 6(0,-6.35) 7(0,-7.62) 8(0,-8.89) 9(0,-10.16) 10(0,-11.43) 11(0,-12.7) 12(0,-13.97) 13(0,-15.24) 14(0,-16.51) 15(0,-17.78) 16(0,-19.05) 17(0,-20.32) 18(0,-21.59) 19(0,-22.86) 20(0,-24.13) 21(0,-25.4) 22(0,-26.67) 23(0,-27.94) 24(0,-29.21) 25(0,-30.48) 26(0,-31.75) 27(0,-33.02) 28(0,-34.29)
F.SilkS:
  lines w0.254: -0.81,0 -0.81,0.81 0,0.81 ; 0.39,-35.035 1.61,-35.035 1.61,0.745 0.39,0.745 ; 0.503,-33.655 1.61,-33.655 ; 0.503,-32.385 1.61,-32.385 ; 0.503,-31.115 1.61,-31.115 ; 0.503,-29.845 1.61,-29.845 ; 0.503,-28.575 1.61,-28.575 ; 0.503,-27.305 1.61,-27.305 ; 0.503,-26.035 1.61,-26.035 ; 0.503,-24.765 1.61,-24.765 ; 0.503,-23.495 1.61,-23.495 ; 0.503,-22.225 1.61,-22.225 ; 0.503,-20.955 1.61,-20.955 ; 0.503,-19.685 1.61,-19.685 ; 0.503,-18.415 1.61,-18.415 ; 0.503,-17.145 1.61,-17.145 ; 0.503,-15.875 1.61,-15.875 ; 0.503,-14.605 1.61,-14.605 ; 0.503,-13.335 1.61,-13.335 ; 0.503,-12.065 1.61,-12.065 ; 0.503,-10.795 1.61,-10.795 ; 0.503,-9.525 1.61,-9.525 ; 0.503,-8.255 1.61,-8.255 ; 0.503,-6.985 1.61,-6.985 ; 0.503,-5.715 1.61,-5.715 ; 0.503,-4.445 1.61,-4.445 ; 0.503,-3.175 1.61,-3.175 ; 0.503,-1.905 1.61,-1.905 ; 0.81,-0.635 1.61,-0.635 ; 1.61,-34.6 5.61,-34.6 5.61,-33.98 1.61,-33.98 ; 1.61,-33.33 5.61,-33.33 5.61,-32.71 1.61,-32.71 ; 1.61,-32.06 5.61,-32.06 5.61,-31.44 1.61,-31.44 ; 1.61,-30.79 5.61,-30.79 5.61,-30.17 1.61,-30.17 ; 1.61,-29.52 5.61,-29.52 5.61,-28.9 1.61,-28.9 ; 1.61,-28.25 5.61,-28.25 5.61,-27.63 1.61,-27.63 ; 1.61,-26.98 5.61,-26.98 5.61,-26.36 1.61,-26.36 ; 1.61,-25.71 5.61,-25.71 5.61,-25.09 1.61,-25.09 ; 1.61,-24.44 5.61,-24.44 5.61,-23.82 1.61,-23.82 ; 1.61,-23.17 5.61,-23.17 5.61,-22.55 1.61,-22.55 ; 1.61,-21.9 5.61,-21.9 5.61,-21.28 1.61,-21.28 ; 1.61,-20.63 5.61,-20.63 5.61,-20.01 1.61,-20.01 ; 1.61,-19.36 5.61,-19.36 5.61,-18.74 1.61,-18.74 ; 1.61,-18.09 5.61,-18.09 5.61,-17.47 1.61,-17.47 ; 1.61,-16.82 5.61,-16.82 5.61,-16.2 1.61,-16.2 ; 1.61,-15.55 5.61,-15.55 5.61,-14.93 1.61,-14.93 ; 1.61,-14.28 5.61,-14.28 5.61,-13.66 1.61,-13.66 ; 1.61,-13.01 5.61,-13.01 5.61,-12.39 1.61,-12.39 ; 1.61,-11.74 5.61,-11.74 5.61,-11.12 1.61,-11.12 ; 1.61,-10.47 5.61,-10.47 5.61,-9.85 1.61,-9.85 ; 1.61,-9.2 5.61,-9.2 5.61,-8.58 1.61,-8.58 ; 1.61,-7.93 5.61,-7.93 5.61,-7.31 1.61,-7.31 ; 1.61,-6.66 5.61,-6.66 5.61,-6.04 1.61,-6.04 ; 1.61,-5.39 5.61,-5.39 5.61,-4.77 1.61,-4.77 ; 1.61,-4.12 5.61,-4.12 5.61,-3.5 1.61,-3.5 ; 1.61,-2.85 5.61,-2.85 5.61,-2.23 1.61,-2.23 ; 1.61,-1.58 5.61,-1.58 5.61,-0.96 1.61,-0.96 ; 1.61,-0.31 5.61,-0.31 5.61,0.31 1.61,0.31 1.61,-0.31
Top Assembly:
  drawing of 173 lines, arcs and shapes, not listed
  text "'.Designator'" at 1.504,-19.573 h0.6
Top Courtyard:
  lines w0.254: -1.14,-35.43 6,-35.43 6,1.14 -1.14,1.14 -1.14,-35.43
Top Designator:
  text ".Designator" at -5.188,-17.653 h1.52

## PinHeader_1x28_P1.27mm_Vertical [mm]
pads (28):
  rect 1x1 hole 0.65: 1(0,0)
  round 1 hole 0.65: 2(0,-1.27) 3(0,-2.54) 4(0,-3.81) 5(0,-5.08) 6(0,-6.35) 7(0,-7.62) 8(0,-8.89) 9(0,-10.16) 10(0,-11.43) 11(0,-12.7) 12(0,-13.97) 13(0,-15.24) 14(0,-16.51) 15(0,-17.78) 16(0,-19.05) 17(0,-20.32) 18(0,-21.59) 19(0,-22.86) 20(0,-24.13) 21(0,-25.4) 22(0,-26.67) 23(0,-27.94) 24(0,-29.21) 25(0,-30.48) 26(0,-31.75) 27(0,-33.02) 28(0,-34.29)
F.SilkS:
  lines w0.254: -1.16,0 -1.16,0.81 0,0.81 ; -0.667,-0.81 -1.16,-0.81 -1.16,-35.035 -0.318,-35.035 ; 0.318,-35.035 1.16,-35.035 1.16,-0.81 0.667,-0.81
Top Assembly:
  lines w0.254: -1.05,-34.925 1.05,-34.925 1.05,0.635 -0.525,0.635 -1.05,0.11 -1.05,-34.925
  text "'.Designator'" at 0.84,-21.192 h1
Top Courtyard:
  lines w0.254: -1.55,-35.43 1.55,-35.43 1.55,1.14 -1.55,1.14 -1.55,-35.43
Top Designator:
  text ".Designator" at -7.618,-17.653 h1.52

## PinHeader_1x28_P1.27mm_Vertical_SMD_Pin1Left [mm]
pads (28):
  rect 3x0.65 smd: 1(-1.5,17.145) 2(1.5,15.875) 3(-1.5,14.605) 4(1.5,13.335) 5(-1.5,12.065) 6(1.5,10.795) 7(-1.5,9.525) 8(1.5,8.255) 9(-1.5,6.985) 10(1.5,5.715) 11(-1.5,4.445) 12(1.5,3.175) 13(-1.5,1.905) 14(1.5,0.635) 15(-1.5,-0.635) 16(1.5,-1.905) 17(-1.5,-3.175) 18(1.5,-4.445) 19(-1.5,-5.715) 20(1.5,-6.985) 21(-1.5,-8.255) 22(1.5,-9.525) 23(-1.5,-10.795) 24(1.5,-12.065) 25(-1.5,-13.335) 26(1.5,-14.605) 27(-1.5,-15.875) 28(1.5,-17.145)
F.SilkS:
  lines w0.254: -2.94,17.78 -1.16,17.78 -1.16,17.89 1.16,17.89 ; -1.16,-16.51 -1.16,-17.89 1.16,-17.89 1.16,-17.78 ; -1.16,-15.24 -1.16,-13.97 ; -1.16,-12.7 -1.16,-11.43 ; -1.16,-10.16 -1.16,-8.89 ; -1.16,-7.62 -1.16,-6.35 ; -1.16,-5.08 -1.16,-3.81 ; -1.16,-2.54 -1.16,-1.27 ; -1.16,0 -1.16,1.27 ; -1.16,2.54 -1.16,3.81 ; -1.16,5.08 -1.16,6.35 ; -1.16,7.62 -1.16,8.89 ; -1.16,10.16 -1.16,11.43 ; -1.16,12.7 -1.16,13.97 ; -1.16,15.24 -1.16,16.51 ; 1.16,-16.51 1.16,-15.24 ; 1.16,-13.97 1.16,-12.7 ; 1.16,-11.43 1.16,-10.16 ; 1.16,-8.89 1.16,-7.62 ; 1.16,-6.35 1.16,-5.08 ; 1.16,-3.81 1.16,-2.54 ; 1.16,-1.27 1.16,0 ; 1.16,1.27 1.16,2.54 ; 1.16,3.81 1.16,5.08 ; 1.16,6.35 1.16,7.62 ; 1.16,8.89 1.16,10.16 ; 1.16,11.43 1.16,12.7 ; 1.16,13.97 1.16,15.24 ; 1.16,16.51 1.16,17.78
Top Assembly:
  lines w0.254: -1.05,-16.075 -2.5,-16.075 -2.5,-15.675 -1.05,-15.675 ; -1.05,-13.535 -2.5,-13.535 -2.5,-13.135 -1.05,-13.135 ; -1.05,-10.995 -2.5,-10.995 -2.5,-10.595 -1.05,-10.595 ; -1.05,-8.455 -2.5,-8.455 -2.5,-8.055 -1.05,-8.055 ; -1.05,-5.915 -2.5,-5.915 -2.5,-5.515 -1.05,-5.515 ; -1.05,-3.375 -2.5,-3.375 -2.5,-2.975 -1.05,-2.975 ; -1.05,-0.835 -2.5,-0.835 -2.5,-0.435 -1.05,-0.435 ; -1.05,1.705 -2.5,1.705 -2.5,2.105 -1.05,2.105 ; -1.05,4.245 -2.5,4.245 -2.5,4.645 -1.05,4.645 ; -1.05,6.785 -2.5,6.785 -2.5,7.185 -1.05,7.185 ; -1.05,9.325 -2.5,9.325 -2.5,9.725 -1.05,9.725 ; -1.05,11.865 -2.5,11.865 -2.5,12.265 -1.05,12.265 ; -1.05,14.405 -2.5,14.405 -2.5,14.805 -1.05,14.805 ; -1.05,16.945 -2.5,16.945 -2.5,17.345 -1.05,17.345 ; 1.05,-17.345 2.5,-17.345 2.5,-16.945 1.05,-16.945 ; 1.05,-14.805 2.5,-14.805 2.5,-14.405 1.05,-14.405 ; 1.05,-12.265 2.5,-12.265 2.5,-11.865 1.05,-11.865 ; 1.05,-9.725 2.5,-9.725 2.5,-9.325 1.05,-9.325 ; 1.05,-7.185 2.5,-7.185 2.5,-6.785 1.05,-6.785 ; 1.05,-4.645 2.5,-4.645 2.5,-4.245 1.05,-4.245 ; 1.05,-2.105 2.5,-2.105 2.5,-1.705 1.05,-1.705 ; 1.05,0.435 2.5,0.435 2.5,0.835 1.05,0.835 ; 1.05,2.975 2.5,2.975 2.5,3.375 1.05,3.375 ; 1.05,5.515 2.5,5.515 2.5,5.915 1.05,5.915 ; 1.05,8.055 2.5,8.055 2.5,8.455 1.05,8.455 ; 1.05,10.595 2.5,10.595 2.5,10.995 1.05,10.995 ; 1.05,13.135 2.5,13.135 2.5,13.535 1.05,13.535 ; 1.05,15.675 2.5,15.675 2.5,16.075 1.05,16.075 ; -1.05,17.345 -1.05,-17.78 1.05,-17.78 1.05,17.78 -0.615,17.78 -1.05,17.345
  text "'.Designator'" at 0.84,-4.047 h1
Top Courtyard:
  lines w0.254: -3.5,-18.28 3.5,-18.28 3.5,18.28 -3.5,18.28 -3.5,-18.28
Top Designator:
  text ".Designator" at -7.618,-0.508 h1.52

## PinHeader_1x28_P1.27mm_Vertical_SMD_Pin1Right [mm]
pads (28):
  rect 3x0.65 smd: 1(1.5,17.145) 2(-1.5,15.875) 3(1.5,14.605) 4(-1.5,13.335) 5(1.5,12.065) 6(-1.5,10.795) 7(1.5,9.525) 8(-1.5,8.255) 9(1.5,6.985) 10(-1.5,5.715) 11(1.5,4.445) 12(-1.5,3.175) 13(1.5,1.905) 14(-1.5,0.635) 15(1.5,-0.635) 16(-1.5,-1.905) 17(1.5,-3.175) 18(-1.5,-4.445) 19(1.5,-5.715) 20(-1.5,-6.985) 21(1.5,-8.255) 22(-1.5,-9.525) 23(1.5,-10.795) 24(-1.5,-12.065) 25(1.5,-13.335) 26(-1.5,-14.605) 27(1.5,-15.875) 28(-1.5,-17.145)
F.SilkS:
  lines w0.254: -1.16,-17.78 -1.16,-17.89 1.16,-17.89 1.16,-16.51 ; -1.16,-16.51 -1.16,-15.24 ; -1.16,-13.97 -1.16,-12.7 ; -1.16,-11.43 -1.16,-10.16 ; -1.16,-8.89 -1.16,-7.62 ; -1.16,-6.35 -1.16,-5.08 ; -1.16,-3.81 -1.16,-2.54 ; -1.16,-1.27 -1.16,0 ; -1.16,1.27 -1.16,2.54 ; -1.16,3.81 -1.16,5.08 ; -1.16,6.35 -1.16,7.62 ; -1.16,8.89 -1.16,10.16 ; -1.16,11.43 -1.16,12.7 ; -1.16,13.97 -1.16,15.24 ; -1.16,17.89 1.16,17.89 1.16,17.78 2.94,17.78 ; 1.16,-15.24 1.16,-13.97 ; 1.16,-12.7 1.16,-11.43 ; 1.16,-10.16 1.16,-8.89 ; 1.16,-7.62 1.16,-6.35 ; 1.16,-5.08 1.16,-3.81 ; 1.16,-2.54 1.16,-1.27 ; 1.16,0 1.16,1.27 ; 1.16,2.54 1.16,3.81 ; 1.16,5.08 1.16,6.35 ; 1.16,7.62 1.16,8.89 ; 1.16,10.16 1.16,11.43 ; 1.16,12.7 1.16,13.97 ; 1.16,15.24 1.16,16.51 ; -1.16,16.51 -1.16,17.78 -1.16,16.51
Top Assembly:
  lines w0.254: -1.05,-17.345 -2.5,-17.345 -2.5,-16.945 -1.05,-16.945 ; -1.05,-14.805 -2.5,-14.805 -2.5,-14.405 -1.05,-14.405 ; -1.05,-12.265 -2.5,-12.265 -2.5,-11.865 -1.05,-11.865 ; -1.05,-9.725 -2.5,-9.725 -2.5,-9.325 -1.05,-9.325 ; -1.05,-7.185 -2.5,-7.185 -2.5,-6.785 -1.05,-6.785 ; -1.05,-4.645 -2.5,-4.645 -2.5,-4.245 -1.05,-4.245 ; -1.05,-2.105 -2.5,-2.105 -2.5,-1.705 -1.05,-1.705 ; -1.05,0.435 -2.5,0.435 -2.5,0.835 -1.05,0.835 ; -1.05,2.975 -2.5,2.975 -2.5,3.375 -1.05,3.375 ; -1.05,5.515 -2.5,5.515 -2.5,5.915 -1.05,5.915 ; -1.05,8.055 -2.5,8.055 -2.5,8.455 -1.05,8.455 ; -1.05,10.595 -2.5,10.595 -2.5,10.995 -1.05,10.995 ; -1.05,13.135 -2.5,13.135 -2.5,13.535 -1.05,13.535 ; -1.05,15.675 -2.5,15.675 -2.5,16.075 -1.05,16.075 ; 1.05,-16.075 2.5,-16.075 2.5,-15.675 1.05,-15.675 ; 1.05,-13.535 2.5,-13.535 2.5,-13.135 1.05,-13.135 ; 1.05,-10.995 2.5,-10.995 2.5,-10.595 1.05,-10.595 ; 1.05,-8.455 2.5,-8.455 2.5,-8.055 1.05,-8.055 ; 1.05,-5.915 2.5,-5.915 2.5,-5.515 1.05,-5.515 ; 1.05,-3.375 2.5,-3.375 2.5,-2.975 1.05,-2.975 ; 1.05,-0.835 2.5,-0.835 2.5,-0.435 1.05,-0.435 ; 1.05,1.705 2.5,1.705 2.5,2.105 1.05,2.105 ; 1.05,4.245 2.5,4.245 2.5,4.645 1.05,4.645 ; 1.05,6.785 2.5,6.785 2.5,7.185 1.05,7.185 ; 1.05,9.325 2.5,9.325 2.5,9.725 1.05,9.725 ; 1.05,11.865 2.5,11.865 2.5,12.265 1.05,12.265 ; 1.05,14.405 2.5,14.405 2.5,14.805 1.05,14.805 ; 1.05,16.945 2.5,16.945 2.5,17.345 1.05,17.345 ; 1.05,17.345 1.05,-17.78 -1.05,-17.78 -1.05,17.78 0.615,17.78 1.05,17.345
  text "'.Designator'" at 0.84,-4.047 h1
Top Courtyard:
  lines w0.254: -3.5,-18.28 3.5,-18.28 3.5,18.28 -3.5,18.28 -3.5,-18.28
Top Designator:
  text ".Designator" at -7.618,-0.508 h1.52

## PinHeader_1x29_P1.27mm_Horizontal [mm]
pads (29):
  rect 1x1 hole 0.65: 1(0,0)
  round 1 hole 0.65: 2(0,-1.27) 3(0,-2.54) 4(0,-3.81) 5(0,-5.08) 6(0,-6.35) 7(0,-7.62) 8(0,-8.89) 9(0,-10.16) 10(0,-11.43) 11(0,-12.7) 12(0,-13.97) 13(0,-15.24) 14(0,-16.51) 15(0,-17.78) 16(0,-19.05) 17(0,-20.32) 18(0,-21.59) 19(0,-22.86) 20(0,-24.13) 21(0,-25.4) 22(0,-26.67) 23(0,-27.94) 24(0,-29.21) 25(0,-30.48) 26(0,-31.75) 27(0,-33.02) 28(0,-34.29) 29(0,-35.56)
F.SilkS:
  lines w0.254: -0.81,0 -0.81,0.81 0,0.81 ; 0.39,-36.305 1.61,-36.305 1.61,0.745 0.39,0.745 ; 0.503,-34.925 1.61,-34.925 ; 0.503,-33.655 1.61,-33.655 ; 0.503,-32.385 1.61,-32.385 ; 0.503,-31.115 1.61,-31.115 ; 0.503,-29.845 1.61,-29.845 ; 0.503,-28.575 1.61,-28.575 ; 0.503,-27.305 1.61,-27.305 ; 0.503,-26.035 1.61,-26.035 ; 0.503,-24.765 1.61,-24.765 ; 0.503,-23.495 1.61,-23.495 ; 0.503,-22.225 1.61,-22.225 ; 0.503,-20.955 1.61,-20.955 ; 0.503,-19.685 1.61,-19.685 ; 0.503,-18.415 1.61,-18.415 ; 0.503,-17.145 1.61,-17.145 ; 0.503,-15.875 1.61,-15.875 ; 0.503,-14.605 1.61,-14.605 ; 0.503,-13.335 1.61,-13.335 ; 0.503,-12.065 1.61,-12.065 ; 0.503,-10.795 1.61,-10.795 ; 0.503,-9.525 1.61,-9.525 ; 0.503,-8.255 1.61,-8.255 ; 0.503,-6.985 1.61,-6.985 ; 0.503,-5.715 1.61,-5.715 ; 0.503,-4.445 1.61,-4.445 ; 0.503,-3.175 1.61,-3.175 ; 0.503,-1.905 1.61,-1.905 ; 0.81,-0.635 1.61,-0.635 ; 1.61,-35.87 5.61,-35.87 5.61,-35.25 1.61,-35.25 ; 1.61,-34.6 5.61,-34.6 5.61,-33.98 1.61,-33.98 ; 1.61,-33.33 5.61,-33.33 5.61,-32.71 1.61,-32.71 ; 1.61,-32.06 5.61,-32.06 5.61,-31.44 1.61,-31.44 ; 1.61,-30.79 5.61,-30.79 5.61,-30.17 1.61,-30.17 ; 1.61,-29.52 5.61,-29.52 5.61,-28.9 1.61,-28.9 ; 1.61,-28.25 5.61,-28.25 5.61,-27.63 1.61,-27.63 ; 1.61,-26.98 5.61,-26.98 5.61,-26.36 1.61,-26.36 ; 1.61,-25.71 5.61,-25.71 5.61,-25.09 1.61,-25.09 ; 1.61,-24.44 5.61,-24.44 5.61,-23.82 1.61,-23.82 ; 1.61,-23.17 5.61,-23.17 5.61,-22.55 1.61,-22.55 ; 1.61,-21.9 5.61,-21.9 5.61,-21.28 1.61,-21.28 ; 1.61,-20.63 5.61,-20.63 5.61,-20.01 1.61,-20.01 ; 1.61,-19.36 5.61,-19.36 5.61,-18.74 1.61,-18.74 ; 1.61,-18.09 5.61,-18.09 5.61,-17.47 1.61,-17.47 ; 1.61,-16.82 5.61,-16.82 5.61,-16.2 1.61,-16.2 ; 1.61,-15.55 5.61,-15.55 5.61,-14.93 1.61,-14.93 ; 1.61,-14.28 5.61,-14.28 5.61,-13.66 1.61,-13.66 ; 1.61,-13.01 5.61,-13.01 5.61,-12.39 1.61,-12.39 ; 1.61,-11.74 5.61,-11.74 5.61,-11.12 1.61,-11.12 ; 1.61,-10.47 5.61,-10.47 5.61,-9.85 1.61,-9.85 ; 1.61,-9.2 5.61,-9.2 5.61,-8.58 1.61,-8.58 ; 1.61,-7.93 5.61,-7.93 5.61,-7.31 1.61,-7.31 ; 1.61,-6.66 5.61,-6.66 5.61,-6.04 1.61,-6.04 ; 1.61,-5.39 5.61,-5.39 5.61,-4.77 1.61,-4.77 ; 1.61,-4.12 5.61,-4.12 5.61,-3.5 1.61,-3.5 ; 1.61,-2.85 5.61,-2.85 5.61,-2.23 1.61,-2.23 ; 1.61,-1.58 5.61,-1.58 5.61,-0.96 1.61,-0.96 ; 1.61,-0.31 5.61,-0.31 5.61,0.31 1.61,0.31 1.61,-0.31
Top Assembly:
  drawing of 179 lines, arcs and shapes, not listed
  text "'.Designator'" at 1.504,-20.208 h0.6
Top Courtyard:
  lines w0.254: -1.14,-36.7 6,-36.7 6,1.14 -1.14,1.14 -1.14,-36.7
Top Designator:
  text ".Designator" at -5.188,-18.288 h1.52

## PinHeader_1x29_P1.27mm_Vertical [mm]
pads (29):
  rect 1x1 hole 0.65: 1(0,0)
  round 1 hole 0.65: 2(0,-1.27) 3(0,-2.54) 4(0,-3.81) 5(0,-5.08) 6(0,-6.35) 7(0,-7.62) 8(0,-8.89) 9(0,-10.16) 10(0,-11.43) 11(0,-12.7) 12(0,-13.97) 13(0,-15.24) 14(0,-16.51) 15(0,-17.78) 16(0,-19.05) 17(0,-20.32) 18(0,-21.59) 19(0,-22.86) 20(0,-24.13) 21(0,-25.4) 22(0,-26.67) 23(0,-27.94) 24(0,-29.21) 25(0,-30.48) 26(0,-31.75) 27(0,-33.02) 28(0,-34.29) 29(0,-35.56)
F.SilkS:
  lines w0.254: -1.16,0 -1.16,0.81 0,0.81 ; -0.667,-0.81 -1.16,-0.81 -1.16,-36.305 -0.318,-36.305 ; 0.318,-36.305 1.16,-36.305 1.16,-0.81 0.667,-0.81
Top Assembly:
  lines w0.254: -1.05,-36.195 1.05,-36.195 1.05,0.635 -0.525,0.635 -1.05,0.11 -1.05,-36.195
  text "'.Designator'" at 0.84,-21.827 h1
Top Courtyard:
  lines w0.254: -1.55,-36.7 1.55,-36.7 1.55,1.14 -1.55,1.14 -1.55,-36.7
Top Designator:
  text ".Designator" at -7.618,-18.288 h1.52